# Altium footprint library RESC160X80X55L30N.PcbLib: 1 footprints
Each footprint in its own frame and in the unit in brackets; x right, y up, seen from the top. Pads: shape width x height; smd on the part's side, far side on the other; paste and mask are expansions set on the pad; w line width, h text height; cw(c..) or ccw(c..) is an arc to the next point about the centre after c.
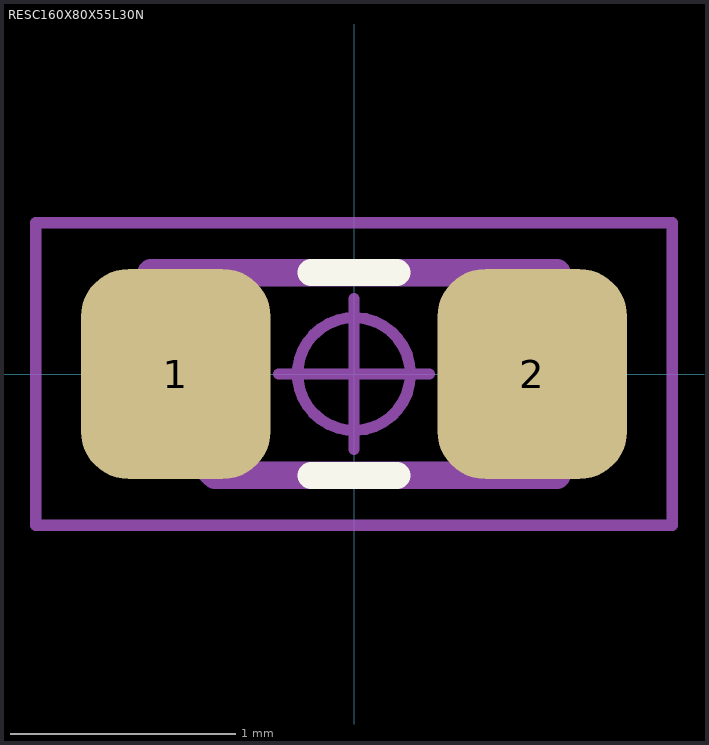
[diagram p0: the footprint, top view; thin cyan lines are the x and y axes]

## RESC160X80X55L30N [mm] "Resistor, Chip; 1.60 mm L X 0.80 mm W X 0.55 mm H body"
height 0.55
pads (2):
  rrect50% 0.84x0.93 smd: 1(-0.79,0) 2(0.79,0)
Top Overlay:
  lines w0.12: -0.19,-0.45 0.19,-0.45 ; -0.19,0.45 0.19,0.45
Mechanical 3:
  lines w0.12: -0.9,-0.167 -0.9,0.45 0.9,0.45 0.9,-0.45 -0.617,-0.45 -0.9,-0.167
Mechanical 5:
  lines w0.025: -0.8,-0.4 0.8,-0.4 ; -0.8,-0.4 -0.8,0.4 ; -0.8,-0.4 -0.8,0.4 ; -0.8,-0.4 -0.5,-0.4 -0.5,0.4 -0.8,0.4 ; -0.8,0.4 0.8,0.4 ; 0.8,-0.4 0.8,0.4 ; 0.8,-0.4 0.5,-0.4 0.5,0.4 0.8,0.4 ; 0.8,-0.4 0.8,0.4
Mechanical 7:
  circle w0.05: c0,0 r0.25
  lines w0.05: -0.335,0 0.335,0 ; 0,-0.335 0,0.335 ; -1.41,-0.67 1.41,-0.67 1.41,0.67 -1.41,0.67 -1.41,-0.67
Mechanical 9:
  text ".Designator" at -4.14,-0.432 h1
3D body: height 0.25, standoff 0, extent -1.397,-0.66 1.397,0.66
3D body "ERJ-3EKF1301V.STEP": height 0.54, standoff -0.01, extent -0.81,-0.4 0.79,0.4